# EAGLE library part TRANSFO_PCB_7VA (library bao00)
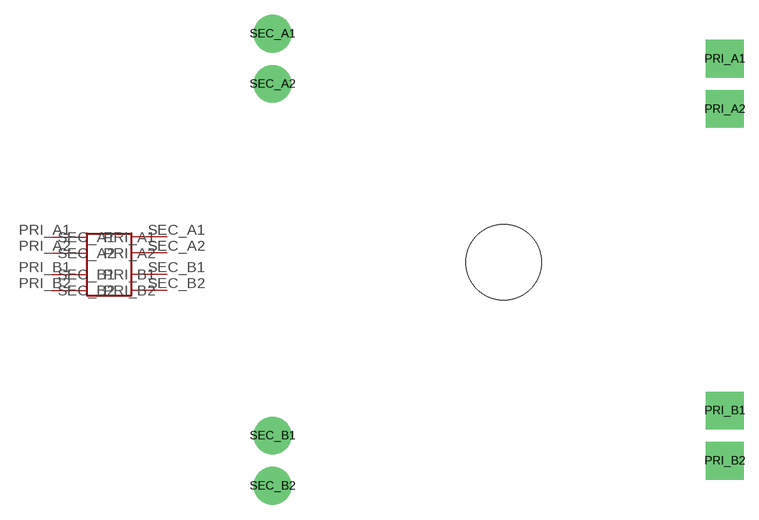
[diagram p3: symbol with the pads of TRANSFO_PCB_7VA; footprint TRANSFO_PCB_7VA]

Designator prefix -

## TRANSFO_PCB_7VA  [TRANSFO_PCB_7VA]
PRI_A1  PRI_A1
PRI_A2  PRI_A2
PRI_B1  PRI_B1
PRI_B2  PRI_B2
SEC_A1  SEC_A1
SEC_A2  SEC_A2
SEC_B1  SEC_B1
SEC_B2  SEC_B2

## Footprint TRANSFO_PCB_7VA (pad centres in mm)
drill 1.3 pad 3.81 square: PRI_A1 22.606,19.558; PRI_A2 22.606,14.478; PRI_B1 22.606,-16.002; PRI_B2 22.606,-21.082
drill 1.3 pad 3.81: SEC_A1 -23.114,22.098; SEC_A2 -23.114,17.018; SEC_B1 -23.114,-18.542; SEC_B2 -23.114,-23.622
hole 7.62 at 0.254,-1.016